# Altium schematic symbol library test.SchLib: 309 symbols (part 1 of 9)
Pins are listed as number, name and electrical type; pins without a type are passive.

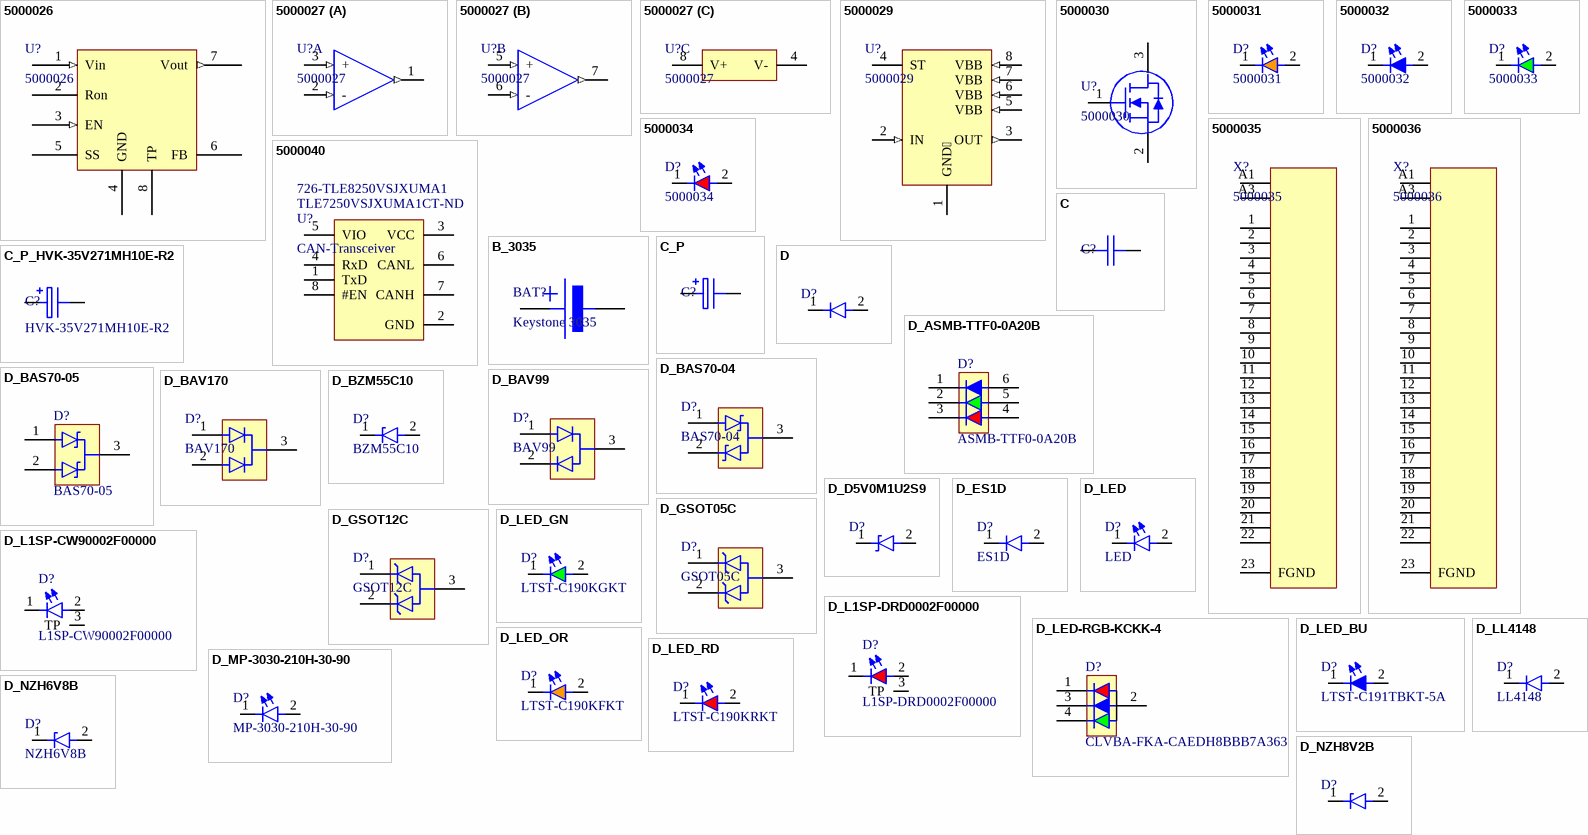
[diagram p0: symbols 5000026 to D_NZH8V2B]

## 5000026
designator U?
Schaltregler (LMZ14202); Supplier 1: 5000026; Supplier Part Number 1: Safematic
footprint 5000026 (Schaltregler (LMZ14202))
pins: 1 Vin (in), 2 Ron, 3 EN (in), 4 GND (power), 5 SS, 6 FB, 7 Vout (out), 8 TP (power)

## 5000027
designator U?
Opamp (May44748AS); Supplier 1: 5000027; Supplier Part Number 1: Safematic
footprint 5000026 (Schaltregler (LMZ14202))
part A pins: 1 (out), 2 - (in), 3 + (in)
part B pins: 5 + (in), 6 - (in), 7 1 (out)
part C pins: 4 V- (power), 8 V+ (power)

## 5000029
designator U?
Power Switch Hi Side 0.4A 8-Pin DSO; Supplier Part Number 2: 5000029; ComponentLink1URL: http://components.arrow.com/part/dataview/52120040S9006902N2051; ComponentLink1Description: http://components.arrow.com/part/dataview/52120040S9006902N2051; ComponentLink2URL: http://components.arrow.com/part/dataview/0323_00171198; ComponentLink2Description: http://components.arrow.com/part/dataview/0323_00171198; ComponentLink3URL: http://www.mouser.com/ds/2/196/Infineon-ISP742RI-DS-v01_01-en-785766.pdf; ComponentLink3Description: http://www.mouser.com/ds/2/196/Infineon-ISP742RI-DS-v01_01-en-785766.pdf; ComponentLink4URL: http://www.infineon.com/dgdl/Infineon-ISP742RI-DS-v01_01-en.pdf?fileId=db3a304412b407950112b429555440bf&ack=t; ComponentLink4Description: http://www.infineon.com/dgdl/Infineon-ISP742RI-DS-v01_01-en.pdf?fileId=db3a304412b407950112b429555440bf&ack=t; Supplier 1: Safematic
footprint PG-DSO-8-24
footprint SO8 (SOIC, 8-Leads, Body 4.90x3.90mm, Pitch 1.27mm, IPC Medium Density)
pins: 1 GND (power), 2 IN (in), 3 OUT (out), 4 ST, 5 VBB (in), 6 VBB (in), 7 VBB (in), 8 VBB (in)

## 5000030
designator U?
Trans MOSFET N-CH 60V 1.9A 3-Pin SOT-23 T/R; Supplier Part Number 1: 5000030; Supplier 1: Safematic
footprint SOT-23 (SOT23, 3-Leads, Body 2.90x2.45mm, Pitch 0.95mm, IPC Medium Density)
pins: 1 G, 2 S, 3 D

## 5000031
designator D?
LED ORANGE  0603 SMD; Supplier 1: Safematic; Supplier Part Number 1: 5000031
footprint LED-0603 (LED generic. 2-Leads, Body 1.6x0.8x0.95 mm)
footprint LED-0603 - OR (LED generic. 2-Leads, Body 1.6x0.8x0.95 mm)
pins: 1, 2

## 5000032
designator D?
LED BLUE  0603 SMD; Supplier 1: Safematic; Supplier Part Number 1: 5000032
footprint LED-0603 (LED generic. 2-Leads, Body 1.6x0.8x0.95 mm)
footprint LED-0603 - BU (LED generic. 2-Leads, Body 1.6x0.8x0.95 mm)
pins: 1, 2

## 5000033
designator D?
LED GREEN  0603 SMD; Supplier 1: Safematic; Supplier Part Number 1: 5000033
footprint LED-0603 (LED generic. 2-Leads, Body 1.6x0.8x0.95 mm)
footprint LED-0603 - GN (LED generic. 2-Leads, Body 1.6x0.8x0.95 mm)
pins: 1, 2

## 5000034
designator D?
LED RED  0603 SMD; Supplier 1: Safematic; Supplier Part Number 1: 5000034
footprint LED-0603 (LED generic. 2-Leads, Body 1.6x0.8x0.95 mm)
footprint LED-0603 - RD (LED generic. 2-Leads, Body 1.6x0.8x0.95 mm)
pins: 1, 2

## 5000035
designator X?
Spezial Sub-D M; Supplier 1: Safematic; Supplier Part Number 1: 5000035
footprint 25POL_DSUB_SPEZ_MALE
pins: 1, 2, 3, 4, 5, 6, 7, 8, 9, 10, 11, 12, 13, 14, 15, 16, 17, 18, 19, 20, 21, 22, 23 FGND (power), A1 (power), A3 (power)

## 5000036
designator X?
Spezial Sub-D F; Supplier 1: Safematic; Supplier Part Number 1: 5000036
footprint 25POL_DSUB_SPEZ_FEMALE
pins: 1, 2, 3, 4, 5, 6, 7, 8, 9, 10, 11, 12, 13, 14, 15, 16, 17, 18, 19, 20, 21, 22, 23 FGND (power), A1 (power), A3 (power)

## 5000040
designator U?, comment CAN-Transceiver  Supplier Part Number 1: TLE7250VSJXUMA1CT-ND  Supplier Part Number 2: 726-TLE8250VSJXUMA1
High Speed CAN-Transceiver; Supplier 1: Digi-Key; Supplier 2: Mouser
footprint PG-DSO-8-44 (infineon PG-DSO-8-44)
pins: 1 TxD, 2 GND, 3 VCC, 4 RxD, 5 VIO, 6 CANL, 7 CANH, 8 #EN

## B_3035
designator BAT?, comment Keystone 3035
BATTERY RETAINER COIN PC PIN; Manufacturer: Keystone Electronics; Manufacturer Part Number: 3035; Number of Cells: 1; Stock 1: 9933; Pricing 1: 1=0.6, 10=0.558, 50=0.5516, 100=0.428, 250=0.3908, 500=0.3722, 1000=0.31265, 2500=0.27915, 5000=0.26985 (USD); Mount: Through Hole,PCB; Termination: PC Pin; ComponentLink1URL: http://www.keyelco.com/product-pdf.cfm?p=14185; ComponentLink1Description: http://www.keyelco.com/product-pdf.cfm?p=14185; Supplier 1: Digi-Key; Supplier 2: Mouser; RoHS: Yes; Stock 2: 760; Pricing 2: 1=0.33000, 10=0.27100, 50=0.23700, 100=0.23100, 1000=0.18000, 10000=0.15500 (USD); ComponentLink2URL: http://www.keyelco.com/product-pdf.cfm?p=14185&src-supplier=Digi-Key; ComponentLink2Description: http://www.keyelco.com/product-pdf.cfm?p=14185&src-supplier=Digi-Key; Supplier Part Number 1: 36-3035-ND; Supplier Part Number 2: 534-3035
footprint 3035 (Keystone 3035)
footprint 3035 short (Keystone 3035)
pins: 1 (power), 2 (power)

## C
designator C?
Chip capacitor, generic
footprint 0402_C
footprint 0603_C
footprint 0805_C_E0
footprint 1206_C_FC
footprint 1210_C_GD
footprint 1812_C_JC
footprint C_5mm
footprint 10.16mm_tht_c
pins: 1, 2

## C_P
designator C?
Polarized generic capacitor
footprint 0402_C
footprint 0603_C
footprint 0805_C_E0
footprint 1206_C_FC
footprint 1210_C_GD
footprint 1812_C_JC
footprint C_5mm
footprint 10.16mm_tht_c
footprint C_2.45mm
footprint CAP 6.3x5.4 (Aluminum Electrolytic Capacitor, Body 6.60x6.60x5.40mm, IPC Low Density)
pins: 1, 2

## C_P_HVK-35V271MH10E-R2
designator C?, comment HVK-35V271MH10E-R2
HYBRID ECAP, 35V, 270UF; Manufacturer: Elna America; Suplier 2: Mouser; Manufacturer Part Number: HVK-35V271MH10E-R2; Supplier Part Number 1: 604-1279-1-ND; Supplier 1: Digi-Key; Supplier Part Number 2: 555-HVK-35V271MH10ER
footprint CAPAE-D10.0x10.2 (Aluminum Electrolytic Capacitor, Body 11.00x10.30x10.50mm, IPC Low Density)
pins: 1, 2

## D
designator D?, comment Diode  (value not drawn)
Diode, generic
footprint SOD80 (MELF Diode, 2-Leads, Body 3.45x1.30mm, IPC Medium Density)
footprint 0402_D
footprint 0603_D
footprint 0805_D
footprint SOD123 (SODFL, 2-Leads, Body 1.70x3.50mm, IPC Medium Density)
footprint DIOMELF1912N (MELF Diode, 2-Leads, Body 1.90x1.15mm, IPC Medium Density)
footprint MiniMelf_SOD-80 (MELF Diode, 2-Leads, Body 3.50x1.50mm, IPC Medium Density)
pins: 1, 2

## D_ASMB-TTF0-0A20B
designator D?, comment ASMB-TTF0-0A20B
LED RGB DIFFUSED 6PLCC SMD; Manufacturer: Broadcom Avago; Element Configuration: Single; Max Repetitive Reverse Voltage (Vrrm): 100V; Peak Non-Repetitive Surge Current: 2A; Forward Current: 150mA; Reverse Recovery Time: 8ns; Forward Voltage: 1V; Power Dissipation: 500mW; Max Reverse Leakage Current: 5nA; Max Reverse Voltage (DC): 75V; Current: 3A; Manufacturer Part Number: ASMB-TTF0-0A20B; Stock 1: 66102; Pricing 1: 1 = 0.60000, 10 = 0.43500, 25 = 0.35520, 100 = 0.28420, 250 = 0.23976, 500 = 0.20424, 1000 = 0.15984 (USD); RoHS: No; ComponentLink1URL: https://media.digikey.com/pdf/Data%20Sheets/Avago%20PDFs/ASMB-TTF0-0A20B.pdf?src-supplier=Digi-Key; ComponentLink1Description: https://media.digikey.com/pdf/Data%20Sheets/Avago%20PDFs/ASMB-TTF0-0A20B.pdf?src-supplier=Digi-Key; Stock 2: 0; Mount: Surface Mount; Case/Package: MELF; Number of Pins: 2; Min Operating Temperature: -65°C; Max Operating Temperature: 175°C; Packaging: Tape and Reel; Package Quantity: 1; Max Surge Current: 2A; Recovery Time: 8ns; Average Rectified Current: 150mA; Max Forward Surge Current (Ifsm): 2A; Max Power Dissipation: 500mW; Voltage: 100V; Diameter: 1.6mm; Length: 0.145inch; Height: 1.5mm; Width: 1.7mm; Radiation Hardening: No; Lead Free: Lead Free; REACH SVHC: Unknown; ComponentLink2URL: https://datasheet.ciiva.com/1243/ls4148-1243072.pdf?src-supplier=Newark; ComponentLink2Description: https://datasheet.ciiva.com/1243/ls4148-1243072.pdf?src-supplier=Newark; ComponentLink3URL: https://datasheet.ciiva.com/4434/ls4148-96368-4434865.pdf?src-supplier=Mouser; ComponentLink3Description: https://datasheet.ciiva.com/4434/ls4148-96368-4434865.pdf?src-supplier=Mouser; ComponentLink4URL: https://datasheet.ciiva.com/16382/ls4148-16382301.pdf?src-supplier=Future+Electronics; ComponentLink4Description: https://datasheet.ciiva.com/16382/ls4148-16382301.pdf?src-supplier=Future+Electronics; ComponentLink5URL: https://datasheet.ciiva.com/13946/ls4148-13946734.pdf?src-supplier=Digi-Key; ComponentLink5Description: https://datasheet.ciiva.com/13946/ls4148-13946734.pdf?src-supplier=Digi-Key; ComponentLink6URL: https://datasheet.ciiva.com/13946/ls4148-13946735.pdf?src-supplier=Digi-Key; ComponentLink6Description: https://datasheet.ciiva.com/13946/ls4148-13946735.pdf?src-supplier=Digi-Key; Supplier 1: Digi-Key; Supplier 2: Mouser; Supplier 3: Farnell; Supplier Part Number 1: 516-3908-1-ND; Supplier Part Number 2: 630-ASMB-TTF0-0A20B; Supplier Part Number 3: 2858361
footprint RGBMulti
footprint ASMB-TTF (ASMB-TTF RGB LEDs)
pins: 1, 2, 3, 4, 5, 6

## D_BAS70-04
designator D?, comment BAS70-04
DIODE ARRAY SCHOTTKY 70V SOT23; Manufacturer: Infineon; Manufacturer Part Number: BAS7004E6327HTSA1; Case/Package: SOT-23; ComponentLink1URL: https://datasheet.ciiva.com/1243/45894-1243522.pdf; ComponentLink1Description: https://datasheet.ciiva.com/1243/45894-1243522.pdf; ComponentLink2URL: https://datasheet.ciiva.com/26924/getdatasheetpartid-775787-26924731.pdf; ComponentLink2Description: https://datasheet.ciiva.com/26924/getdatasheetpartid-775787-26924731.pdf; ComponentLink3URL: https://datasheet.ciiva.com/25953/infineon-bas70-bas170series-ds-v01-01-en-25953243.pdf; ComponentLink3Description: https://datasheet.ciiva.com/25953/infineon-bas70-bas170series-ds-v01-01-en-25953243.pdf; ComponentLink4URL: https://datasheet.ciiva.com/1180/45894-1180127.pdf; ComponentLink4Description: https://datasheet.ciiva.com/1180/45894-1180127.pdf; ComponentLink5URL: https://datasheet.ciiva.com/1202/45894-1202974.pdf; ComponentLink5Description: https://datasheet.ciiva.com/1202/45894-1202974.pdf; ComponentLink6URL: https://datasheet.ciiva.com/8302/infineon-bas70-bas170series-ds-v01-01-en-8302987.pdf; ComponentLink6Description: https://datasheet.ciiva.com/8302/infineon-bas70-bas170series-ds-v01-01-en-8302987.pdf; ComponentLink7URL: https://datasheet.ciiva.com/906/infineon-bas70-bas170series-ds-v01-01-en-906277.pdf; ComponentLink7Description: https://datasheet.ciiva.com/906/infineon-bas70-bas170series-ds-v01-01-en-906277.pdf; ComponentLink8URL: https://datasheet.ciiva.com/906/infineon-bas70-bas170series-ds-v01-01-en-906276.pdf; ComponentLink8Description: https://datasheet.ciiva.com/906/infineon-bas70-bas170series-ds-v01-01-en-906276.pdf; ComponentLink9URL: https://datasheet.ciiva.com/906/infineon-bas70-bas170series-ds-v01-01-en-906278.pdf; ComponentLink9Description: https://datasheet.ciiva.com/906/infineon-bas70-bas170series-ds-v01-01-en-906278.pdf; ComponentLink10URL: https://datasheet.ciiva.com/3048/infineon-bas70-bas170series-ds-v01-01-en-3048117.pdf; ComponentLink10Description: https://datasheet.ciiva.com/3048/infineon-bas70-bas170series-ds-v01-01-en-3048117.pdf; Supplier 1: Farnell; Supplier 2: Digi-Key; Supplier 3: Mouser; Supplier Part Number 1: 1056501; Supplier Part Number 2: BAS7004E6327HTSA1CT-ND; Supplier Part Number 3: 726-BAS70-04E6327
footprint SOT-23 (SOT23, 3-Leads, Body 2.90x2.45mm, Pitch 0.95mm, IPC Medium Density)
pins: 1, 2, 3

## D_BAS70-05
designator D?, comment BAS70-05
Diode Schottky 70V 0.07A Automotive 3-Pin SOT-23 T/R; Manufacturer: Infineon; Manufacturer Part Number: BAS7005E6327HTSA1; Case/Package: SOT-23; ComponentLink1URL: https://datasheet.ciiva.com/3049/infineon-bas70-bas170series-ds-v01-01-en-3049350.pdf; ComponentLink1Description: https://datasheet.ciiva.com/3049/infineon-bas70-bas170series-ds-v01-01-en-3049350.pdf; Supplier 1: Digi-Key; Supplier 3: Mouser; Supplier 2: Farnell; Supplier Part Number 1: BAS7005E6327HTSA1CT-ND; Supplier Part Number 3: 726-BAS7005E6327HTSA; Supplier Part Number 2: 2443536
footprint SOT-23 (SOT23, 3-Leads, Body 2.90x2.45mm, Pitch 0.95mm, IPC Medium Density)
pins: 1, 2, 3

## D_BAV99
designator D?, comment BAV99
DIODE, SW DUAL, 75V, 0.35W, SOT23-3; Manufacturer: Diodes; Manufacturer Part Number: BAV99-7-F; Supplier 1: Digi-Key; Supplier Part Number 1: BAV99-FDICT-ND; Case/Package: SOT-23; ComponentLink1URL: https://datasheet.ciiva.com/4435/ds12007-83610-4435123.pdf; ComponentLink1Description: https://datasheet.ciiva.com/4435/ds12007-83610-4435123.pdf; ComponentLink2URL: https://datasheet.ciiva.com/16199/ds12007-16199031.pdf; ComponentLink2Description: https://datasheet.ciiva.com/16199/ds12007-16199031.pdf; ComponentLink3URL: https://datasheet.ciiva.com/25954/ds12007-25954555.pdf; ComponentLink3Description: https://datasheet.ciiva.com/25954/ds12007-25954555.pdf; ComponentLink4URL: https://datasheet.ciiva.com/15144/getdatasheetpartid-88401-15144620.pdf; ComponentLink4Description: https://datasheet.ciiva.com/15144/getdatasheetpartid-88401-15144620.pdf; ComponentLink5URL: https://datasheet.ciiva.com/1180/ds12007-1180726.pdf; ComponentLink5Description: https://datasheet.ciiva.com/1180/ds12007-1180726.pdf; ComponentLink6URL: https://datasheet.ciiva.com/8303/ds12007-8303318.pdf; ComponentLink6Description: https://datasheet.ciiva.com/8303/ds12007-8303318.pdf; ComponentLink7URL: https://datasheet.ciiva.com/49516/1539331-49516470.pdf; ComponentLink7Description: https://datasheet.ciiva.com/49516/1539331-49516470.pdf
footprint SOT-23 (SOT23, 3-Leads, Body 2.90x2.45mm, Pitch 0.95mm, IPC Medium Density)
pins: 1, 2, 3

## D_BAV170
designator D?, comment BAV170
DIODE ARRAY GP 80V 200MA SOT23; Manufacturer: Infineon; Manufacturer Part Number: BAV170E6327; Supplier 1: Digi-Key; Supplier Part Number 1: BAV170E6327HTSA1CT-ND; Case/Package: SOT-23; ComponentLink1URL: https://datasheet.ciiva.com/8300/infineon-bav170series-ds-v01-01-en-8300657.pdf; ComponentLink1Description: https://datasheet.ciiva.com/8300/infineon-bav170series-ds-v01-01-en-8300657.pdf; ComponentLink2URL: https://datasheet.ciiva.com/4452/bav170series-84649-4452484.pdf; ComponentLink2Description: https://datasheet.ciiva.com/4452/bav170series-84649-4452484.pdf; ComponentLink3URL: https://datasheet.ciiva.com/26851/getdatasheetpartid-572321-26851099.pdf; ComponentLink3Description: https://datasheet.ciiva.com/26851/getdatasheetpartid-572321-26851099.pdf; ComponentLink4URL: https://datasheet.ciiva.com/908/infineon-bav170series-ds-v01-01-en-908727.pdf; ComponentLink4Description: https://datasheet.ciiva.com/908/infineon-bav170series-ds-v01-01-en-908727.pdf; ComponentLink5URL: https://datasheet.ciiva.com/908/infineon-bav170series-ds-v01-01-en-908728.pdf; ComponentLink5Description: https://datasheet.ciiva.com/908/infineon-bav170series-ds-v01-01-en-908728.pdf; ComponentLink6URL: https://datasheet.ciiva.com/908/infineon-bav170series-ds-v01-01-en-908729.pdf; ComponentLink6Description: https://datasheet.ciiva.com/908/infineon-bav170series-ds-v01-01-en-908729.pdf
footprint SOT-23 (SOT23, 3-Leads, Body 2.90x2.45mm, Pitch 0.95mm, IPC Medium Density)
pins: 1, 2, 3

## D_BZM55C10
designator D?, comment BZM55C10
Diode Zener Single 10V 6% 500mW 2-Pin MicroMELF T/R; Manufacturer: Vishay; Manufacturer Part Number: BZM55C10-TR3; Max Reverse Leakage Current: 100nA; Impedance: 15R; Test Current: 5mA; ESD Protection: No; Supplier 1: Digi-Key; Supplier Part Number 1: BZM55C10-TR3GICT-ND; Stock 1: 10000; Pricing 1: 1 = 0.23000, 10 = 0.18800, 25 = 0.15760, 100 = 0.09980, 250 = 0.07704, 500 = 0.06566, 1000 = 0.04465, 2500 = 0.04027, 5000 = 0.03502 (USD); RoHS: Yes; Mount: Surface Mount; Case/Package: SMD/SMT; Number of Pins: 2; Contact Plating: Tin; Min Operating Temperature: -65°C; Max Operating Temperature: 175°C; Max Power Dissipation: 500mW; Zener Voltage: 10V; Element Configuration: Single; Package Quantity: 10000; Packaging: Tape and Reel; Power Dissipation: 500mW; Voltage Tolerance: 6%; ComponentLink1URL: https://datasheet.ciiva.com/10630/bzm55-se-10630600.pdf?src-supplier=Avnet; ComponentLink1Description: https://datasheet.ciiva.com/10630/bzm55-se-10630600.pdf?src-supplier=Avnet
footprint DIOMELF1912N (MELF Diode, 2-Leads, Body 1.90x1.15mm, IPC Medium Density)
pins: 1, 2

## D_D5V0M1U2S9
designator D?, comment D5V0M1U2S9  (value not drawn)
SURFACE MOUNT UNIDIRECTIONAL TVS DIODE; Manufacturer: Diodes; Manufacturer Part Number: D5V0M1U2S9-7; Supplier 1: Digi-Key; Supplier Part Number 1: D5V0M1U2S9-7DICT-ND; ComponentLink1URL: http://www.mouser.com/ds/2/115/D5V0M1U2S9-756882.pdf; ComponentLink1Description: http://www.mouser.com/ds/2/115/D5V0M1U2S9-756882.pdf; ComponentLink2URL: https://www.diodes.com/assets/Datasheets/D5V0M1U2S9.pdf; ComponentLink2Description: https://www.diodes.com/assets/Datasheets/D5V0M1U2S9.pdf
footprint SOD923
pins: 1, 2

## D_ES1D
designator D?, comment ES1D
ON SEMICONDUCTOR - ES1D - Fast / Ultrafast Diode, 200 V, 1 A, Single, 950 mV, 15 ns, 30 A; Manufacturer: ON Semiconductor / Fairchild; Forward Voltage: 920mV; Forward Current: 1A; Max Reverse Current: 5uA; Max Repetitive Reverse Voltage (Vrrm): 200V; Peak Non-Repetitive Surge Current: 30A; Polarity: Standard; Capacitance: 7pF; Reverse Recovery Time: 15ns; Power Dissipation: 1.47W; Supplier 1: Digi-Key; Manufacturer Part Number: ES1D; RoHS: Yes; Category: Rectifier Diodes; Stock 1: 176556; Pricing 1: 1=0.49000, 10=0.36400, 100=0.20630, 500=0.13662, 1000=0.10474, 2000=0.09108 (USD); Mount: Surface Mount; Case/Package: DO-214AC; Number of Pins: 2; Contact Plating: Tin,Matte; Min Operating Temperature: -50°C; Max Operating Temperature: 150°C; Packaging: Tape and Reel; Element Configuration: Single; Voltage Rating (DC): 200V; Current Rating: 1A; Output Current: 1A; Package Quantity: 1; Max Surge Current: 30A; Average Rectified Current: 1A; Max Forward Surge Current (Ifsm): 30A; Max Reverse Voltage (DC): 200V; Reverse Voltage: 200V; Recovery Time: 15ns; Current: 1A; Voltage: 200V; Series: -; Reverse Recovery Time-Max: 15ns; Length: 4.75mm; Width: 2.95mm; Height: 2.2mm; Radiation Hardening: No; REACH SVHC: No SVHC; Lead Free: Lead Free; RoHS Compliant: Yes; ComponentLink1URL: https://datasheet.ciiva.com/5739/575529-5739201.pdf?src-supplier=Farnell; ComponentLink1Description: https://datasheet.ciiva.com/5739/575529-5739201.pdf?src-supplier=Farnell; ComponentLink2URL: https://datasheet.ciiva.com/4453/es1d-192752-4453197.pdf?src-supplier=Mouser; ComponentLink2Description: https://datasheet.ciiva.com/4453/es1d-192752-4453197.pdf?src-supplier=Mouser; ComponentLink3URL: https://datasheet.ciiva.com/917/es1a-917872.pdf?src-supplier=Digi-Key; ComponentLink3Description: https://datasheet.ciiva.com/917/es1a-917872.pdf?src-supplier=Digi-Key; ComponentLink4URL: https://datasheet.ciiva.com/917/es1a-917873.pdf?src-supplier=Digi-Key; ComponentLink4Description: https://datasheet.ciiva.com/917/es1a-917873.pdf?src-supplier=Digi-Key; ComponentLink5URL: https://datasheet.ciiva.com/17041/es1d-17041659.pdf?src-supplier=Future+Electronics; ComponentLink5Description: https://datasheet.ciiva.com/17041/es1d-17041659.pdf?src-supplier=Future+Electronics; ComponentLink6URL: https://datasheet.ciiva.com/25951/es1d-25951451.pdf?src-supplier=Avnet+Europe; ComponentLink6Description: https://datasheet.ciiva.com/25951/es1d-25951451.pdf?src-supplier=Avnet+Europe; ComponentLink7URL: https://datasheet.ciiva.com/7622/575529-7622988.pdf?src-supplier=Element14; ComponentLink7Description: https://datasheet.ciiva.com/7622/575529-7622988.pdf?src-supplier=Element14; ComponentLink8URL: https://datasheet.ciiva.com/8300/es1d-8300557.pdf?src-supplier=Avnet; ComponentLink8Description: https://datasheet.ciiva.com/8300/es1d-8300557.pdf?src-supplier=Avnet; ComponentLink9URL: https://datasheet.ciiva.com/917/es1a-917871.pdf?src-supplier=Digi-Key; ComponentLink9Description: https://datasheet.ciiva.com/917/es1a-917871.pdf?src-supplier=Digi-Key; Supplier 2: Farnell; Supplier 3: Mouser; Supplier Part Number 1: ES1DFSCT-ND; Supplier Part Number 2: 1470967; Supplier Part Number 3: 512-ES1D
footprint DO-214AC
pins: 1, 2

## D_GSOT05C
designator D?, comment GSOT05C
ESD Suppressor TVS ±30KV 3-Pin SOT-23 T/R; Manufacturer: Vishay; Manufacturer Part Number: GSOT05C-E3-08; Supplier 1: Digi-Key; Supplier Part Number 1: GSOT05C-E3-08CT-ND; Case/Package: SOT-23; ComponentLink1URL: https://datasheet.ciiva.com/24154/gsot03c-24154936.pdf; ComponentLink1Description: https://datasheet.ciiva.com/24154/gsot03c-24154936.pdf; ComponentLink2URL: https://datasheet.ciiva.com/29574/gsot03c-29574168.pdf; ComponentLink2Description: https://datasheet.ciiva.com/29574/gsot03c-29574168.pdf; ComponentLink3URL: https://datasheet.ciiva.com/29574/gsot03c-29574166.pdf; ComponentLink3Description: https://datasheet.ciiva.com/29574/gsot03c-29574166.pdf; ComponentLink4URL: https://datasheet.ciiva.com/29574/gsot03c-29574167.pdf; ComponentLink4Description: https://datasheet.ciiva.com/29574/gsot03c-29574167.pdf
footprint SOT-23 (SOT23, 3-Leads, Body 2.90x2.45mm, Pitch 0.95mm, IPC Medium Density)
pins: 1, 2, 3

## D_GSOT12C
designator D?, comment GSOT12C
ESD Suppressor TVS ±30KV 3-Pin SOT-23 T/R; Manufacturer: Vishay; Manufacturer Part Number: GSOT12C-E3-08; Supplier 1: Digi-Key; Supplier Part Number 1: GSOT12C-E3-08CT-ND; Case/Package: SOT-23; ComponentLink1URL: https://datasheet.ciiva.com/26945/getdatasheetpartid-790068-26945989.pdf; ComponentLink1Description: https://datasheet.ciiva.com/26945/getdatasheetpartid-790068-26945989.pdf; ComponentLink2URL: https://datasheet.ciiva.com/28375/gsot03c-28375373.pdf; ComponentLink2Description: https://datasheet.ciiva.com/28375/gsot03c-28375373.pdf; ComponentLink3URL: https://datasheet.ciiva.com/29588/gsot03c-29588509.pdf; ComponentLink3Description: https://datasheet.ciiva.com/29588/gsot03c-29588509.pdf; ComponentLink4URL: https://datasheet.ciiva.com/29588/gsot03c-29588508.pdf; ComponentLink4Description: https://datasheet.ciiva.com/29588/gsot03c-29588508.pdf; ComponentLink5URL: https://datasheet.ciiva.com/48533/gsot03c-48533337.pdf; ComponentLink5Description: https://datasheet.ciiva.com/48533/gsot03c-48533337.pdf; ComponentLink6URL: https://datasheet.ciiva.com/29588/gsot03c-29588507.pdf; ComponentLink6Description: https://datasheet.ciiva.com/29588/gsot03c-29588507.pdf
footprint SOT-23 (SOT23, 3-Leads, Body 2.90x2.45mm, Pitch 0.95mm, IPC Medium Density)
pins: 1, 2, 3

## D_L1SP-CW90002F00000
designator D?, comment L1SP-CW90002F00000
Manufacturer: Philips Lumileds; Supplier 1: Avnet Europe; Manufacturer Part Number: L1SP-CW90002F00000; RoHS: No; Pricing 1: 5000=0.98846, 7000=0.90297, 12000=0.86022, 25000=0.80679, 50000=0.75871 (EUR); Supplier Part Number 1: L1SP-CW90002F00000
footprint L1SP-xxx0002F000000 (L1SP-xxx0002F000000 LED general)
pins: 1, 2, 3 TP

## D_L1SP-DRD0002F00000
designator D?, comment L1SP-DRD0002F00000
Manufacturer: Philips Lumileds; Supplier 1: Arrow Electronics; Manufacturer Part Number: L1SP-DRD0002F00000; RoHS: No; Pricing 1: 5000=1.06000, 50000=1.03900, 500000=0.90870, 2500000=0.82220, 5000000=0.82060 (USD); Supplier Part Number 1: L1SP-DRD0002F00000
footprint L1SP-xRD0002F000000 (L1SP-xRD0002F000000 LED Red)
pins: 1, 2, 3 TP

## D_LED
designator D?, comment LED
LED, generic
footprint LED-0603 (LED generic. 2-Leads, Body 1.6x0.8x0.95 mm)
footprint LED-0603 - WH (LED generic. 2-Leads, Body 1.6x0.8x0.95 mm)
footprint MP-3030-210H
footprint SST-x0 (SST-x0 LED general)
footprint 2121
footprint 1717
footprint L1SP-xxx0002F000000 (L1SP-xxx0002F000000 LED general)
pins: 1, 2

## D_LED-RGB-KCKK-4
designator D?, comment CLVBA-FKA-CAEDH8BBB7A363
Standard LEDs - SMD 120DG RD/GR/BL BK BD 470,527,620NM; Luminous Intensity: 71mcd,140mcd,36mcd; Viewing Angle: 120deg; Brand: Cree,Inc.; Lens Color/Style: UVTinted; Forward Current: 20mA; LED Size: 3.2mmx2.8mmx1.9mm; Wavelength/Color Temperature: 630nm,527nm,470nm; Forward Voltage: 1.9V,3V,3V; Illumination Color: RGB; Color: Blue,Green,Red; Lens Color: Clear; Lens Style: Diffused,Round; Dominant Wavelength: 470nm; Number of Elements: 3; Max Power Dissipation: 130mW; Number of LEDs: 1; Reverse Voltage: 5V; Package / Case: PLCC-4; Package Reference: PLCC-4; Packaging: Reel; Maximum Operating Temperature: +100C; Minimum Operating Temperature: -40C; Product Category: StandardLEDs-SMD; Manufacturer URL: http://www.cree.com/; RoHS: Details; Factory Pack Quantity: 2000; Datasheet URL: http://datasheet.octopart.com/CLVBA-FKA-CAEDH8BBB7A363-Cree-datasheet-44497822.pdf; Manufacturer: Cree,Inc.; Mounting Technology: SurfaceMount; Package Description: 4-Pin Plastic Leaded Chip Carrier, Body 3.2 x 2.8 mm; Datasheet Version: 12/2014; Manufacturer Part Number: CLVBA-FKA-CAEDH8BBB7A363; Supplier 1: Digi-Key; Category: LEDs; Stock 1: 46454; Pricing 1: 1=0.42000, 10=0.39100, 100=0.36120, 1000=0.32308 (USD); Mount: Surface Mount; Case/Package: PLCC; Number of Pins: 4; Min Operating Temperature: -40°C; Max Operating Temperature: 100°C; Package Quantity: 2000; Test Current: 20mA; Series: CLVBA-FKA; Length: 2.8mm; Width: 2.8mm; Height: 1.9mm; Depth: 3.2mm; Radiation Hardening: No; REACH SVHC: Unknown; RoHS Compliant: Yes; ComponentLink1URL: https://datasheet.ciiva.com/2111/clvbafka-2111860.pdf?src-supplier=Digi-Key; ComponentLink1Description: https://datasheet.ciiva.com/2111/clvbafka-2111860.pdf?src-supplier=Digi-Key; ComponentLink2URL: https://datasheet.ciiva.com/26857/getdatasheetpartid-490977-26857209.pdf?src-supplier=Verical; ComponentLink2Description: https://datasheet.ciiva.com/26857/getdatasheetpartid-490977-26857209.pdf?src-supplier=Verical; ComponentLink3URL: https://datasheet.ciiva.com/2111/clvbafka-2111861.pdf?src-supplier=Digi-Key; ComponentLink3Description: https://datasheet.ciiva.com/2111/clvbafka-2111861.pdf?src-supplier=Digi-Key; ComponentLink4URL: https://datasheet.ciiva.com/2111/clvbafka-2111862.pdf?src-supplier=Digi-Key; ComponentLink4Description: https://datasheet.ciiva.com/2111/clvbafka-2111862.pdf?src-supplier=Digi-Key; Supplier 2: Farnell; Supplier 3: Mouser; Supplier Part Number 1: CLVBA-FKA-CAEDH8BBB7A363CT-ND; Supplier Part Number 2: 2370393; Supplier Part Number 3: 941-VBAFKACAEDH8B7A3
footprint CLVBA-FKA_RGB_A_V (SMD, 4-Leads, Body 3.2x2.8mm)
pins: 1 RED, 2 COMMON, 3 BLUE, 4 GREEN

## D_LED_BU
designator D?, comment LTST-C191TBKT-5A
LED BLUE  0603 SMD; Manufacturer: Vishay Lite-On; Supplier 1: Digi-Key; Supplier Part Number 1: 160-2212-1-ND; Manufacturer Part Number: LTST-C191TBKT-5A; Case/Package: 0603; ComponentLink1URL: http://components.arrow.com/part/dataview/52218576S9813001N1331; ComponentLink1Description: http://components.arrow.com/part/dataview/52218576S9813001N1331; ComponentLink2URL: http://optoelectronics.liteon.com/zh-cn/api/DwonloadFileHandler.ashx?txtSpecNo=DS22-2003-020&txtPartNo=LTST-C191TBKT-5A; ComponentLink2Description: http://optoelectronics.liteon.com/zh-cn/api/DwonloadFileHandler.ashx?txtSpecNo=DS22-2003-020&txtPartNo=LTST-C191TBKT-5A; ComponentLink3URL: http://www.mouser.com/ds/2/239/LTST-C191TBKT-5A-1150649.pdf; ComponentLink3Description: http://www.mouser.com/ds/2/239/LTST-C191TBKT-5A-1150649.pdf
footprint LED-0603 (LED generic. 2-Leads, Body 1.6x0.8x0.95 mm)
footprint LED-0603 - BU (LED generic. 2-Leads, Body 1.6x0.8x0.95 mm)
pins: 1, 2

## D_LED_GN
designator D?, comment LTST-C190KGKT
LED GREEN  0603 SMD; Manufacturer: Vishay Lite-On; Supplier 1: Digi-Key; Supplier Part Number 1: 160-1435-1-ND; Manufacturer Part Number: LTST-C190KGKT; Case/Package: 0603; Colour: Green; ComponentLink1URL: https://datasheet.ciiva.com/11774/0900766b80dc02a8-11774060.pdf; ComponentLink1Description: https://datasheet.ciiva.com/11774/0900766b80dc02a8-11774060.pdf; ComponentLink2URL: https://datasheet.ciiva.com/12403/100-ltst-c190kgkt-63268-12403899.pdf; ComponentLink2Description: https://datasheet.ciiva.com/12403/100-ltst-c190kgkt-63268-12403899.pdf; ComponentLink3URL: https://datasheet.ciiva.com/15117/getdatasheetpartid-141494-15117731.pdf; ComponentLink3Description: https://datasheet.ciiva.com/15117/getdatasheetpartid-141494-15117731.pdf; ComponentLink4URL: https://datasheet.ciiva.com/2109/s-110-ltst-c190kgkt-2109989.pdf; ComponentLink4Description: https://datasheet.ciiva.com/2109/s-110-ltst-c190kgkt-2109989.pdf; ComponentLink5URL: https://datasheet.ciiva.com/2109/s-110-ltst-c190kgkt-2109988.pdf; ComponentLink5Description: https://datasheet.ciiva.com/2109/s-110-ltst-c190kgkt-2109988.pdf; ComponentLink6URL: https://datasheet.ciiva.com/2109/s-110-ltst-c190kgkt-2109990.pdf; ComponentLink6Description: https://datasheet.ciiva.com/2109/s-110-ltst-c190kgkt-2109990.pdf
footprint LED-0603 (LED generic. 2-Leads, Body 1.6x0.8x0.95 mm)
footprint LED-0603 - GN (LED generic. 2-Leads, Body 1.6x0.8x0.95 mm)
pins: 1, 2

## D_LED_OR
designator D?, comment LTST-C190KFKT
LED ORANGE  0603 SMD; Manufacturer: Vishay Lite-On; Supplier 1: Digi-Key; Supplier Part Number 1: 160-1434-1-ND; Manufacturer Part Number: LTST-C190KFKT; ComponentLink1URL: https://datasheet.ciiva.com/12400/100-ltst-c190kfkt-53640-12400769.pdf; ComponentLink1Description: https://datasheet.ciiva.com/12400/100-ltst-c190kfkt-53640-12400769.pdf; ComponentLink2URL: https://datasheet.ciiva.com/16396/lite-on20ltst-c190kfkt-16396246.pdf; ComponentLink2Description: https://datasheet.ciiva.com/16396/lite-on20ltst-c190kfkt-16396246.pdf; ComponentLink3URL: https://datasheet.ciiva.com/11774/0900766b80dc02a7-11774744.pdf; ComponentLink3Description: https://datasheet.ciiva.com/11774/0900766b80dc02a7-11774744.pdf; ComponentLink4URL: https://datasheet.ciiva.com/15201/getdatasheetpartid-309341-15201388.pdf; ComponentLink4Description: https://datasheet.ciiva.com/15201/getdatasheetpartid-309341-15201388.pdf; ComponentLink5URL: https://datasheet.ciiva.com/2109/s-110-ltst-c190kfkt-2109976.pdf; ComponentLink5Description: https://datasheet.ciiva.com/2109/s-110-ltst-c190kfkt-2109976.pdf; ComponentLink6URL: https://datasheet.ciiva.com/2109/s-110-ltst-c190kfkt-2109977.pdf; ComponentLink6Description: https://datasheet.ciiva.com/2109/s-110-ltst-c190kfkt-2109977.pdf; ComponentLink7URL: https://datasheet.ciiva.com/2109/s-110-ltst-c190kfkt-2109978.pdf; ComponentLink7Description: https://datasheet.ciiva.com/2109/s-110-ltst-c190kfkt-2109978.pdf; ComponentLink8URL: https://datasheet.ciiva.com/15116/getdatasheetpartid-719825-15116727.pdf; ComponentLink8Description: https://datasheet.ciiva.com/15116/getdatasheetpartid-719825-15116727.pdf; ComponentLink13URL: https://datasheet.ciiva.com/16214/abmm2-16214428.pdf; ComponentLink13Description: https://datasheet.ciiva.com/16214/abmm2-16214428.pdf
footprint LED-0603 (LED generic. 2-Leads, Body 1.6x0.8x0.95 mm)
footprint LED-0603 - OR (LED generic. 2-Leads, Body 1.6x0.8x0.95 mm)
pins: 1, 2

## D_LED_RD
designator D?, comment LTST-C190KRKT
LED RED  0603 SMD; Manufacturer: Vishay Lite-On; Supplier 1: Digi-Key; Supplier Part Number 1: 160-1436-1-ND; Manufacturer Part Number: LTST-C190KRKT; Case/Package: 0603; ComponentLink1URL: https://datasheet.ciiva.com/11774/0900766b80dc02a9-11774043.pdf; ComponentLink1Description: https://datasheet.ciiva.com/11774/0900766b80dc02a9-11774043.pdf; ComponentLink2URL: https://datasheet.ciiva.com/15117/getdatasheetpartid-57395-15117240.pdf; ComponentLink2Description: https://datasheet.ciiva.com/15117/getdatasheetpartid-57395-15117240.pdf; ComponentLink3URL: https://datasheet.ciiva.com/16427/ltst-c190krkt-16427674.pdf; ComponentLink3Description: https://datasheet.ciiva.com/16427/ltst-c190krkt-16427674.pdf; ComponentLink4URL: https://datasheet.ciiva.com/12403/100-ltst-c190krkt-59805-12403895.pdf; ComponentLink4Description: https://datasheet.ciiva.com/12403/100-ltst-c190krkt-59805-12403895.pdf; ComponentLink5URL: https://datasheet.ciiva.com/19482/1260381-19482354.pdf; ComponentLink5Description: https://datasheet.ciiva.com/19482/1260381-19482354.pdf; ComponentLink6URL: https://datasheet.ciiva.com/2109/s-110-ltst-c190krkt-2109992.pdf; ComponentLink6Description: https://datasheet.ciiva.com/2109/s-110-ltst-c190krkt-2109992.pdf; ComponentLink7URL: https://datasheet.ciiva.com/2109/s-110-ltst-c190krkt-2109993.pdf; ComponentLink7Description: https://datasheet.ciiva.com/2109/s-110-ltst-c190krkt-2109993.pdf; ComponentLink8URL: https://datasheet.ciiva.com/2109/s-110-ltst-c190krkt-2109991.pdf; ComponentLink8Description: https://datasheet.ciiva.com/2109/s-110-ltst-c190krkt-2109991.pdf; ComponentLink9URL: https://datasheet.ciiva.com/26937/getdatasheetpartid-631582-26937958.pdf; ComponentLink9Description: https://datasheet.ciiva.com/26937/getdatasheetpartid-631582-26937958.pdf
footprint LED-0603 (LED generic. 2-Leads, Body 1.6x0.8x0.95 mm)
footprint LED-0603 - RD (LED generic. 2-Leads, Body 1.6x0.8x0.95 mm)
footprint 1717-R (171 red)
footprint L1SP-xRD0002F000000 (L1SP-xRD0002F000000 LED Red)
pins: 1, 2

## D_LL4148
designator D?, comment LL4148
DIODE GEN PURP 100V 200MA SOD80; Manufacturer: ON Semiconductor / Fairchild; Supplier 1: Digi-Key; Supplier Part Number 1: LL4148FSCT-ND; Manufacturer Part Number: LL4148; ComponentLink1URL: https://datasheet.ciiva.com/4453/ll4148-70504-4453114.pdf; ComponentLink1Description: https://datasheet.ciiva.com/4453/ll4148-70504-4453114.pdf; ComponentLink2URL: https://datasheet.ciiva.com/27048/94908-27048041.pdf; ComponentLink2Description: https://datasheet.ciiva.com/27048/94908-27048041.pdf; ComponentLink3URL: https://datasheet.ciiva.com/1181/1730036-1181026.pdf; ComponentLink3Description: https://datasheet.ciiva.com/1181/1730036-1181026.pdf; ComponentLink4URL: https://datasheet.ciiva.com/8303/ll4148-8303779.pdf; ComponentLink4Description: https://datasheet.ciiva.com/8303/ll4148-8303779.pdf; ComponentLink5URL: https://datasheet.ciiva.com/26912/getdatasheetpartid-110057-26912779.pdf; ComponentLink5Description: https://datasheet.ciiva.com/26912/getdatasheetpartid-110057-26912779.pdf; ComponentLink6URL: https://datasheet.ciiva.com/8053/1896420-8053645.pdf; ComponentLink6Description: https://datasheet.ciiva.com/8053/1896420-8053645.pdf; ComponentLink7URL: https://datasheet.ciiva.com/22735/1896420-22735578.pdf; ComponentLink7Description: https://datasheet.ciiva.com/22735/1896420-22735578.pdf; ComponentLink8URL: https://datasheet.ciiva.com/910/ll4148-910343.pdf; ComponentLink8Description: https://datasheet.ciiva.com/910/ll4148-910343.pdf; ComponentLink9URL: https://datasheet.ciiva.com/910/ll4148-910344.pdf; ComponentLink9Description: https://datasheet.ciiva.com/910/ll4148-910344.pdf; ComponentLink10URL: https://datasheet.ciiva.com/910/ll4148-910345.pdf; ComponentLink10Description: https://datasheet.ciiva.com/910/ll4148-910345.pdf
footprint SOD80 (MELF Diode, 2-Leads, Body 3.45x1.30mm, IPC Medium Density)
footprint MiniMelf_SOD-80 (MELF Diode, 2-Leads, Body 3.50x1.50mm, IPC Medium Density)
pins: 1, 2

## D_MP-3030-210H-30-90
designator D?, comment MP-3030-210H-30-90
3030 Mid Power LED (150mA, 6V); Manufacturer: Luminus Devices; Color: White; Correlated Color Temperature (CCT): 3000K; Color Rendering Index (CRI): 90; Max Current Rating: 240mA; Viewing Angle: 110°; Thermal Resistance of Package: 16°C/W; Supplier 1: Digi-Key; Supplier Part Number 1: 1214-1600-1-ND; Manufacturer Part Number: MP-3030-210H-30-90; RoHS: No; Stock: 14968; Pricing 1: 1=0.60000, 10=0.43500, 100=0.19320, 500=0.13524, 1000=0.11109, 2500=0.09660 (USD); Mount: Surface Mount; Case/Package: 1212; Case Code (Imperial): 1212; Case Code (Metric): 3030; Packaging: Tape and Reel; Test Current: 150mA; Forward Voltage: 6V; ComponentLink1URL: https://media.digikey.com/pdf/Data%20Sheets/Luminus%20PDFs/MP-3030-210H_Preliminary_Rev01_6-20-18.pdf?src-supplier=Digi-Key; ComponentLink1Description: https://media.digikey.com/pdf/Data%20Sheets/Luminus%20PDFs/MP-3030-210H_Preliminary_Rev01_6-20-18.pdf?src-supplier=Digi-Key
footprint MP-3030-210H
pins: 1, 2

## D_NZH6V8B
designator D?, comment NZH6V8B
NZH Series 6.8 V 500 mW Surface Mount Single Zener Diode - SOD-123F; Manufacturer: Nexperia; Manufacturer Part Number: NZH6V8B,115; Supplier 1: Digi-Key; RoHS: Yes; Category: Zener Diodes; Stock 1: 67928; Pricing 1: 1=0.19000, 10=0.12800, 100=0.06270, 500=0.05230, 1000=0.03634 (USD); RoHS Compliant: Yes; Supplier 2: Mouser; Supplier 3: Farnell; Supplier Part Number 1: 1727-5078-1-ND; Supplier Part Number 2: 771-NZH6V8B-115; Supplier Part Number 3: 2069487
footprint SOD123 (SODFL, 2-Leads, Body 1.70x3.50mm, IPC Medium Density)
pins: 1, 2

## D_NZH8V2B
designator D?, comment NZH8V2B  (value not drawn)
Diode Zener Single 8.19V 2% 1W Automotive 2-Pin SOD-123F T/R; Manufacturer: NXP Semiconductors; Manufacturer Part Number: NZH8V2B,115; Supplier 1: Digi-Key; Supplier Part Number 1: 1727-5080-1-ND; ComponentLink1URL: https://datasheet.ciiva.com/17265/nzh-ser-17265389.pdf; ComponentLink1Description: https://datasheet.ciiva.com/17265/nzh-ser-17265389.pdf; ComponentLink2URL: https://datasheet.ciiva.com/10645/nzh-ser-10645279.pdf; ComponentLink2Description: https://datasheet.ciiva.com/10645/nzh-ser-10645279.pdf; ComponentLink3URL: https://datasheet.ciiva.com/890/nzh-ser-890277.pdf; ComponentLink3Description: https://datasheet.ciiva.com/890/nzh-ser-890277.pdf; ComponentLink4URL: https://datasheet.ciiva.com/890/nzh-ser-890275.pdf; ComponentLink4Description: https://datasheet.ciiva.com/890/nzh-ser-890275.pdf; ComponentLink5URL: https://datasheet.ciiva.com/890/nzh-ser-890276.pdf; ComponentLink5Description: https://datasheet.ciiva.com/890/nzh-ser-890276.pdf
footprint SOD123 (SODFL, 2-Leads, Body 1.70x3.50mm, IPC Medium Density)
pins: 1, 2

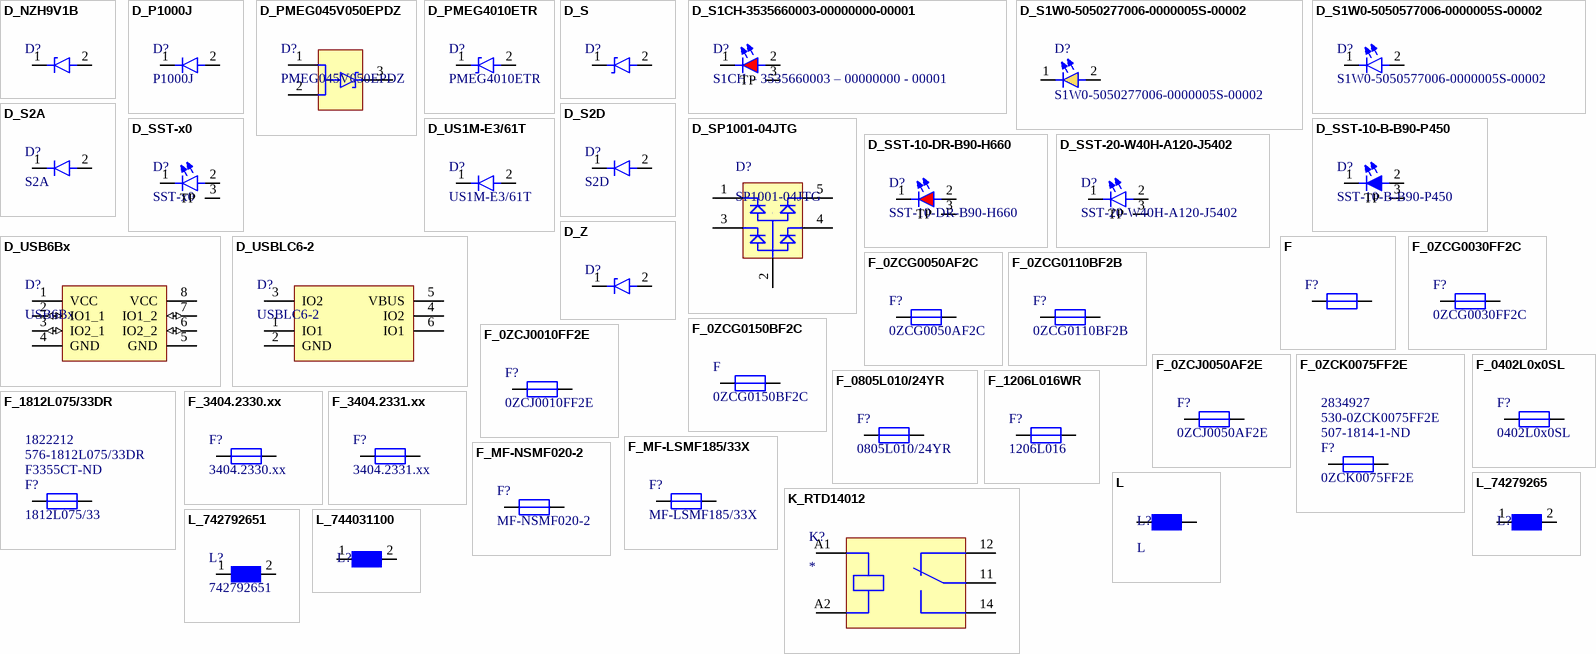
[diagram p1: symbols D_NZH9V1B to L_744031100]

## D_NZH9V1B
designator D?, comment NZH9V1B  (value not drawn)
Diode Zener Single 9.04V 2% 1W Automotive 2-Pin Sod-123F T/R; Manufacturer: NXP Semiconductors; Manufacturer Part Number: NZH9V1B,115; Max Power Dissipation: 500mW; Max Reverse Leakage Current: 500nA; Impedance: 8R; Supplier 1: Digi-Key; Supplier Part Number 1: 1727-5081-1-ND; Stock 1: 18444; Pricing 1: 1 = 0.20000, 10 = 0.16600, 100 = 0.08810, 500 = 0.05794, 1000 = 0.03940 (USD); RoHS: Yes; Mount: Surface Mount; Number of Pins: 2; Min Operating Temperature: -55°C; Max Operating Temperature: 150°C; Zener Voltage: 9.04V; Packaging: Tape and Reel; Element Configuration: Single; Package Quantity: 1; Tolerance: 2%; Voltage Tolerance: 2%; Power Dissipation: 500mW; Radiation Hardening: No; Lead Free: Lead Free; ComponentLink1URL: https://datasheet.ciiva.com/890/nzh-ser-890379.pdf?src-supplier=Digi-Key; ComponentLink1Description: https://datasheet.ciiva.com/890/nzh-ser-890379.pdf?src-supplier=Digi-Key; ComponentLink2URL: https://datasheet.ciiva.com/17265/nzh-ser-17265391.pdf?src-supplier=Avnet+Europe; ComponentLink2Description: https://datasheet.ciiva.com/17265/nzh-ser-17265391.pdf?src-supplier=Avnet+Europe; ComponentLink3URL: https://datasheet.ciiva.com/890/nzh-ser-890376.pdf?src-supplier=Digi-Key; ComponentLink3Description: https://datasheet.ciiva.com/890/nzh-ser-890376.pdf?src-supplier=Digi-Key; ComponentLink4URL: https://datasheet.ciiva.com/890/nzh-ser-890377.pdf?src-supplier=Digi-Key; ComponentLink4Description: https://datasheet.ciiva.com/890/nzh-ser-890377.pdf?src-supplier=Digi-Key; ComponentLink5URL: https://datasheet.ciiva.com/890/nzh-ser-890378.pdf?src-supplier=Digi-Key; ComponentLink5Description: https://datasheet.ciiva.com/890/nzh-ser-890378.pdf?src-supplier=Digi-Key
footprint SOD123 (SODFL, 2-Leads, Body 1.70x3.50mm, IPC Medium Density)
pins: 1, 2

## D_P1000J
designator D?, comment P1000J
Diotec P1000J; Max Forward Surge Current (Ifsm): 400A; Supplier 1: Conrad; Manufacturer: Diotec; Manufacturer Part Number: P1000J; RoHS: No; Category: Uncategorized; Stock 1: 1457; Pricing 1: 5=3.41000, 50=2.51000, 100=2.37000, 200=2.36000, 500=2.06000, 1000=1.97000, 5=0.38400, 50=0.28300, 100=0.26700, 200=0.26600, 500=0.23100, 1000=0.22100, 5=46.80000, 50=34.40000, 100=32.50000, 200=32.40000, 500=28.20000, 1000=26.90000, 5=0.45400, 50=0.33400, 100=0.31500, 200=0.31400, 500=0.27300, 1000=0.26100 (CNY); Packaging: Ammo Pack; ComponentLink1URL: https://datasheet.ciiva.com/29315/556767-da-01-ml-diode-p1000j-8x7-5-dio-de-en-29315590.pdf?src-supplier=Conrad; ComponentLink1Description: https://datasheet.ciiva.com/29315/556767-da-01-ml-diode-p1000j-8x7-5-dio-de-en-29315590.pdf?src-supplier=Conrad; ComponentLink2URL: https://datasheet.ciiva.com/29315/160077-da-01-ml-diode-p1000j-diotec-de-en-29315651.pdf?src-supplier=Conrad; ComponentLink2Description: https://datasheet.ciiva.com/29315/160077-da-01-ml-diode-p1000j-diotec-de-en-29315651.pdf?src-supplier=Conrad; Supplier Part Number 1: 556767 - 62
footprint P1000J (Diode)
pins: 1, 2

## D_PMEG045V050EPDZ
designator D?, comment PMEG045V050EPDZ
DIODE SCHOTTKY 45V 5A CFP15; Manufacturer: Nexperia; Supplier 1: Digi-Key; Supplier Part Number 1: 1727-2280-1-ND; Manufacturer Part Number: PMEG045V050EPDZ; RoHS: No; Stock: 13300; Pricing 1: 1=0.59000, 10=0.50600, 25=0.47240, 100=0.35100, 250=0.33344, 500=0.27406 (USD); ComponentLink1URL: https://assets.nexperia.com/documents/data-sheet/PMEG045V050EPD.pdf?src-supplier=Digi-Key; ComponentLink1Description: https://assets.nexperia.com/documents/data-sheet/PMEG045V050EPD.pdf?src-supplier=Digi-Key
footprint SOT1289
pins: 1, 2, 3

## D_PMEG4010ETR
designator D?, comment PMEG4010ETR
Diode Schottky 40V 1A 2-Pin SOD-123W; Manufacturer: NXP Semiconductors; Manufacturer Part Number: PMEG4010ETR,115; ComponentLink1URL: https://datasheet.ciiva.com/24111/pmeg4010etr-278098-24111944.pdf; ComponentLink1Description: https://datasheet.ciiva.com/24111/pmeg4010etr-278098-24111944.pdf; ComponentLink2URL: https://datasheet.ciiva.com/29592/pmeg4010etr-29592374.pdf; ComponentLink2Description: https://datasheet.ciiva.com/29592/pmeg4010etr-29592374.pdf; ComponentLink3URL: https://datasheet.ciiva.com/29592/pmeg4010etr-29592375.pdf; ComponentLink3Description: https://datasheet.ciiva.com/29592/pmeg4010etr-29592375.pdf; Supplier 1: Digi-Key; Supplier Part Number 1: 1727-1341-1-ND
footprint SOD123 (SODFL, 2-Leads, Body 1.70x3.50mm, IPC Medium Density)
pins: 1, 2

## D_S
designator D?, comment Schottky Diode  (value not drawn)
Schottky diode, generic
footprint 0402_D
footprint 0603_D
footprint 0805_D
footprint SOD123 (SODFL, 2-Leads, Body 1.70x3.50mm, IPC Medium Density)
pins: 1, 2

## D_S1CH-3535660003-00000000-00001
designator D?, comment S1CH – 3535660003 – 00000000 - 00001
Deep Red-LED; Manufacturer: Seoul Semiconductor; Manufacturer Part Number: S1CH-3535660003-00000000-00001; Supplier 1: Digi-Key; RoHS: No; Stock 1: 800; Pricing 1: 1=1.61000, 10=1.01800, 100=0.75300, 500=0.69196 (USD); Supplier Part Number 1: 897-S1CH-3535660003-00000000-00001CT-ND
footprint S1CH-3535660003 (S1CH – 3535660003 – 00000000 - 00001)
pins: 1, 2, 3 TP

## D_S1W0-5050277006-0000005S-00002
designator D?, comment S1W0-5050277006-0000005S-00002
LED Chip Cool White 2700K 800mA 2-Pin Surface Mount T/R; Manufacturer: Seoul Semiconductor; Manufacturer Part Number: S1W0-5050277006-0000005S-00002; Stock 1: 2000; Pricing 1: 1000=0.29500, 2000=0.28000, 3000=0.26500, 4000=0.25500, 5000=0.24000 (USD); Supplier 1: Future Electronics; Supplier 2: Avnet; Supplier Part Number 1: 5117253; Supplier Part Number 2: S1W0-5050277006-0000005S-00002
footprint S1W0-5050277006 (High-Power LED -5050 6V Series)
pins: 1, 2

## D_S1W0-5050577006-0000005S-00002
designator D?, comment S1W0-5050577006-0000005S-00002
LED Chip Cool White 5700K 800mA 2-Pin Surface Mount T/R; Manufacturer: Seoul Semiconductor; Stock 1: 1770; Pricing 1: 1=0.88000, 10=0.57400, 100=0.37600 (USD); Supplier 1: Digi-Key; Supplier 2: Future Electronics; Supplier Part Number 1: 897-1440-1-ND; Supplier Part Number 2: 1119768; Manufacturer Part Number: S1W0-5050577006-0000005S-00002
footprint S1W0-5050577006 (High-Power LED -5050 6V Series)
pins: 1, 2

## D_S2A
designator D?, comment S2A
DIODE, RECTIFIER, 2A, 50V, SMB; Manufacturer: ON Semiconductor / Fairchild; Capacitance: 30pF; Forward Voltage: 1.15V; Element Configuration: Single; Polarity: Standard; Peak Reverse Current: 1uA; Peak Non-Repetitive Surge Current: 50A; Reverse Recovery Time: 2us; Recovery Time: 2000ns; Power Dissipation: 2.35W; Supplier 1: Digi-Key; Supplier Part Number 1: S2AFSCT-ND; Manufacturer Part Number: S2A; Stock 1: 30269; Pricing 1: 1=0.34000, 10=0.25400, 100=0.14370, 500=0.09516, 1000=0.07296 (USD); RoHS: Yes; Mount: Surface Mount; Case/Package: SMB; Number of Pins: 2; Weight: 0.18g; Contact Plating: Tin; Min Operating Temperature: -65°C; Max Operating Temperature: 150°C; Packaging: Tape and Reel; Package Quantity: 1; Termination: SMD/SMT; Voltage Rating (DC): 50V; Current Rating: 2A; Output Current: 2A; Max Repetitive Reverse Voltage (Vrrm): 50V; Forward Current: 2A; Max Surge Current: 50A; Average Rectified Current: 2A; Max Reverse Voltage (DC): 50V; Max Forward Surge Current (Ifsm): 50A; Reverse Voltage: 50V; Max Output Current: 2A; Max Power Dissipation: 2.35W; Length: 4.75mm; Height: 2.45mm; Width: 3.95mm; Radiation Hardening: No; REACH SVHC: No SVHC; Lead Free: Lead Free; ComponentLink1URL: https://datasheet.ciiva.com/27051/1072815-27051365.pdf?src-supplier=Jameco; ComponentLink1Description: https://datasheet.ciiva.com/27051/1072815-27051365.pdf?src-supplier=Jameco; ComponentLink2URL: https://datasheet.ciiva.com/23683/1747511-23683472.pdf?src-supplier=Newark; ComponentLink2Description: https://datasheet.ciiva.com/23683/1747511-23683472.pdf?src-supplier=Newark; ComponentLink3URL: https://datasheet.ciiva.com/4452/s2a-191342-4452399.pdf?src-supplier=Mouser; ComponentLink3Description: https://datasheet.ciiva.com/4452/s2a-191342-4452399.pdf?src-supplier=Mouser; ComponentLink4URL: https://datasheet.ciiva.com/7965/1793260-7965191.pdf?src-supplier=Element14; ComponentLink4Description: https://datasheet.ciiva.com/7965/1793260-7965191.pdf?src-supplier=Element14; ComponentLink5URL: https://datasheet.ciiva.com/910/s2a-910616.pdf?src-supplier=Digi-Key; ComponentLink5Description: https://datasheet.ciiva.com/910/s2a-910616.pdf?src-supplier=Digi-Key; ComponentLink6URL: https://datasheet.ciiva.com/8301/s2m-8301049.pdf?src-supplier=Avnet; ComponentLink6Description: https://datasheet.ciiva.com/8301/s2m-8301049.pdf?src-supplier=Avnet; ComponentLink7URL: https://datasheet.ciiva.com/26231/s2m-26231867.pdf?src-supplier=Avnet+Europe; ComponentLink7Description: https://datasheet.ciiva.com/26231/s2m-26231867.pdf?src-supplier=Avnet+Europe; ComponentLink8URL: https://datasheet.ciiva.com/15144/getdatasheetpartid-36582-15144038.pdf?src-supplier=Verical; ComponentLink8Description: https://datasheet.ciiva.com/15144/getdatasheetpartid-36582-15144038.pdf?src-supplier=Verical; ComponentLink9URL: https://datasheet.ciiva.com/910/s2a-910617.pdf?src-supplier=Digi-Key; ComponentLink9Description: https://datasheet.ciiva.com/910/s2a-910617.pdf?src-supplier=Digi-Key; ComponentLink10URL: https://datasheet.ciiva.com/910/s2a-910618.pdf?src-supplier=Digi-Key; ComponentLink10Description: https://datasheet.ciiva.com/910/s2a-910618.pdf?src-supplier=Digi-Key
footprint DO-214AA (SMB) (Molded Diode, 2-Leads, Body 4.40x3.63mm, IPC Medium Density)
pins: 1, 2

## D_S2D
designator D?, comment S2D
Diode Switching 200V 2A 2-Pin DO-214AA T/R; Manufacturer: ON Semiconductor / Fairchild; Element Configuration: Single; Forward Voltage: 1.15V; Peak Reverse Current: 1uA; Max Surge Current: 50A; Reverse Recovery Time: 2us; Recovery Time: 2000ns; Polarity: Standard; Capacitance: 30pF; Power Dissipation: 2.35W; Supplier 1: Digi-Key; Supplier Part Number 1: S2DFSCT-ND; Manufacturer Part Number: S2D; Stock 1: 13252; Pricing 1: 1=0.34000, 10=0.25400, 100=0.14370, 500=0.09516, 1000=0.07296 (USD); RoHS: Yes; Mount: Surface Mount; Case/Package: SMB; Number of Pins: 2; Weight: 0.18g; Min Operating Temperature: -65°C; Max Operating Temperature: 150°C; Packaging: Tape and Reel; Package Quantity: 3000; Average Rectified Current: 2A; Forward Current: 2A; Max Reverse Voltage (DC): 200V; Peak Non-Repetitive Surge Current: 50A; Max Repetitive Reverse Voltage (Vrrm): 200V; Voltage Rating (DC): 200V; Current Rating: 2A; Output Current: 2A; Reverse Voltage: 200V; Max Forward Surge Current (Ifsm): 50A; Length: 4.75mm; Height: 2.75mm; Width: 3.95mm; Radiation Hardening: No; Lead Free: Lead Free; REACH SVHC: No SVHC; ComponentLink1URL: https://datasheet.ciiva.com/4452/s2d-196818-4452417.pdf?src-supplier=Mouser; ComponentLink1Description: https://datasheet.ciiva.com/4452/s2d-196818-4452417.pdf?src-supplier=Mouser; ComponentLink2URL: https://datasheet.ciiva.com/26231/s2m-26231958.pdf?src-supplier=Avnet+Europe; ComponentLink2Description: https://datasheet.ciiva.com/26231/s2m-26231958.pdf?src-supplier=Avnet+Europe; ComponentLink3URL: https://datasheet.ciiva.com/29592/s2a-29592248.pdf?src-supplier=Digi-Key; ComponentLink3Description: https://datasheet.ciiva.com/29592/s2a-29592248.pdf?src-supplier=Digi-Key; ComponentLink4URL: https://datasheet.ciiva.com/7965/1793260-7965193.pdf?src-supplier=Element14; ComponentLink4Description: https://datasheet.ciiva.com/7965/1793260-7965193.pdf?src-supplier=Element14; ComponentLink5URL: https://datasheet.ciiva.com/29592/s2a-29592249.pdf?src-supplier=Digi-Key; ComponentLink5Description: https://datasheet.ciiva.com/29592/s2a-29592249.pdf?src-supplier=Digi-Key; ComponentLink6URL: https://datasheet.ciiva.com/29592/s2a-29592250.pdf?src-supplier=Digi-Key; ComponentLink6Description: https://datasheet.ciiva.com/29592/s2a-29592250.pdf?src-supplier=Digi-Key; ComponentLink7URL: https://datasheet.ciiva.com/8301/s2m-8301054.pdf?src-supplier=Avnet; ComponentLink7Description: https://datasheet.ciiva.com/8301/s2m-8301054.pdf?src-supplier=Avnet
footprint DO-214AA (SMB) (Molded Diode, 2-Leads, Body 4.40x3.63mm, IPC Medium Density)
pins: 1, 2